# EAGLE library part CFS-0400MB (library TREC_Library)
CFS Slide Switches 4 Position Slide Switch (Under Dip Switches) CFS-0400MB CFS = Series Name 04 = Number of bits 00 = Flat Knob washable type M = Packing = Magzine B = Gull Wing A bit is a position, example, 4 bits is 4 switches CFS DATASHEET <https://www.nidec-copal-electronics.com/e/catalog/switch/cfs.pdf>
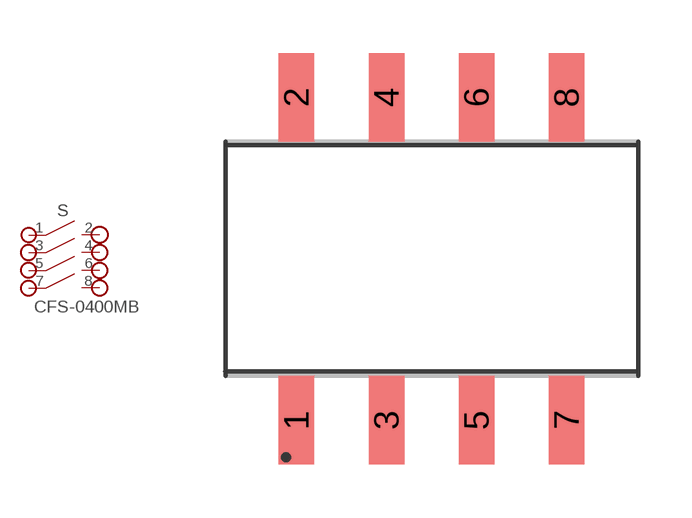
[diagram p1: symbol with the pads of CFS-0400MB; footprint CFS-0400MB]

Designator prefix S

## CFS-0400MBSMD (VALUE: CFS-0400MB)  [CFS-0400MB]
1  1
2  2
3  3
4  4
5  5
6  6
7  7
8  8

## Footprint CFS-0400MB (pad centres in mm)
smd 1 x 2.5: 1 0.5,1.25; 2 0.5,10.35; 3 3.04,1.25; 4 3.04,10.35; 5 5.58,1.25; 6 5.58,10.35; 7 8.12,1.25; 8 8.12,10.35